# EAGLE library part CS70 (library Sedna Components)
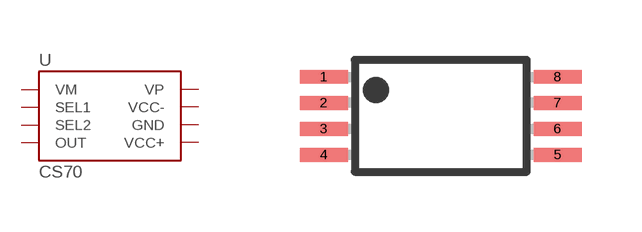
[diagram p1: symbol with the pads of TSSOP8; footprint TSSOP8]

Designator prefix U

## CS70  [TSSOP8]
1  VM  in
2  SEL1  in
3  SEL2  in
4  OUT  out
5  VCC+  pwr
6  GND  pwr
7  VCC-  pwr
8  VP  in

## Footprint TSSOP8 (pad centres in mm)
Plastic Small Outline
smd 1.2 x 0.35: 1 -2.925,0.975; 2 -2.925,0.325; 3 -2.925,-0.325; 4 -2.925,-0.975; 5 2.925,-0.975; 6 2.925,-0.325; 7 2.925,0.325; 8 2.925,0.975